# Altium schematic symbol library Serial Memory.SchLib: 3 symbols
Pins are listed as number, name and electrical type; pins without a type are passive.

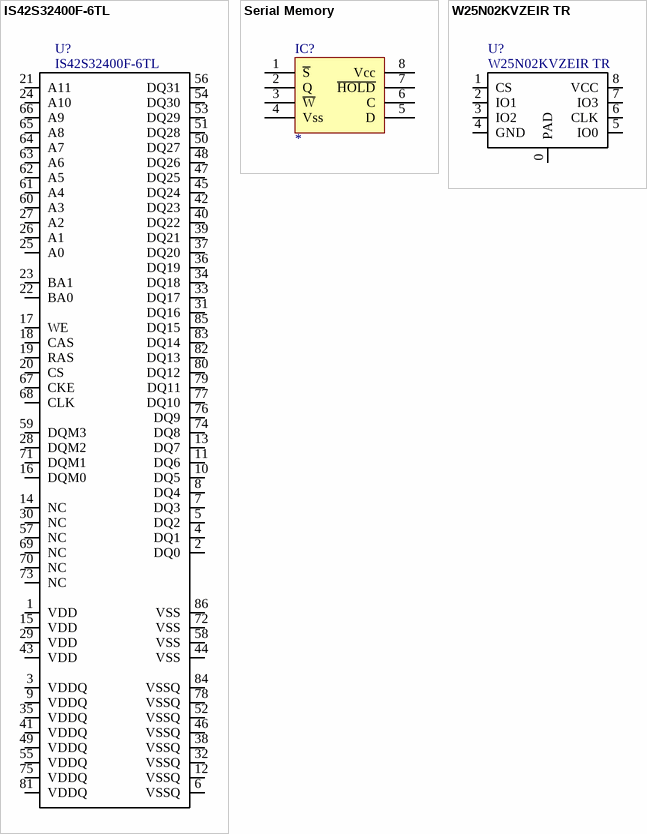
[diagram p0: symbols IS42S32400F-6TL to W25N02KVZEIR TR]

## IS42S32400F-6TL
designator U?, comment Part Number: IS42S32400F-6TL  (hidden comment: 128M 4Mx32 166Mhz SDRAM, 3.3V)
Manufacturer: ISSI; Price 1: 4.24; Price 100: 3.39; Price 1000: 3.28
footprint TSOP-86 (TSOP-86 0.5mm)
pins: 1 VDD, 2 DQ0, 3 VDDQ, 4 DQ1, 5 DQ2, 6 VSSQ, 7 DQ3, 8 DQ4, 9 VDDQ, 10 DQ5, 11 DQ6, 12 VSSQ, 13 DQ7, 14 NC, 15 VDD, 16 DQM0, 17 WE, 18 CAS, 19 RAS, 20 CS, 21 A11, 22 BA0, 23 BA1, 24 A10, 25 A0, 26 A1, 27 A2, 28 DQM2, 29 VDD, 30 NC, 31 DQ16, 32 VSSQ, 33 DQ17, 34 DQ18, 35 VDDQ, 36 DQ19, 37 DQ20, 38 VSSQ, 39 DQ21, 40 DQ22, 41 VDDQ, 42 DQ23, 43 VDD, 44 VSS, 45 DQ24, 46 VSSQ, 47 DQ25, 48 DQ26, 49 VDDQ, 50 DQ27, 51 DQ28, 52 VSSQ, 53 DQ29, 54 DQ30, 55 VDDQ, 56 DQ31, 57 NC, 58 VSS, 59 DQM3, 60 A3, 61 A4, 62 A5, 63 A6, 64 A7, 65 A8, 66 A9, 67 CKE, 68 CLK, 69 NC, 70 NC, 71 DQM1, 72 VSS, 73 NC, 74 DQ8, 75 VDDQ, 76 DQ9, 77 DQ10, 78 VSSQ, 79 DQ11, 80 DQ12, 81 VDDQ, 82 DQ13, 83 DQ14, 84 VSSQ, 85 DQ15, 86 VSS

## Serial Memory
designator IC?
Part Nr:: *
footprint SO8 150mil Narrow Package (SOIC, 8-Leads, Body 5,0x4,0mm (max), Pitch 1,27mm, IPC Medium Density)
pins: 1 ~{S}, 2 Q, 3 ~{W}, 4 Vss, 5 D, 6 C, 7 ~{HOLD}, 8 Vcc

## W25N02KVZEIR TR
designator U?, comment Part Number: W25N02KVZEIR TR  (hidden comment: QSPI FLASH)
Manufacturer: Winbond; Price 1: 4.19; Price 100: 3.32; Price 1000: 3.03
footprint WSON 8x6mm
pins: 0 PAD, 1 CS, 2 IO1, 3 IO2, 4 GND, 5 IO0, 6 CLK, 7 IO3, 8 VCC